# EAGLE library part IMS-C011M2 (library Transputers)
C011 peripheral mode 2 INMOS link adaptor in operation mode 2. Source: The Transputer Databook 1992 INMOS/SGS-Thomson Arto Kyyhkynen, artoky@dlc.fi
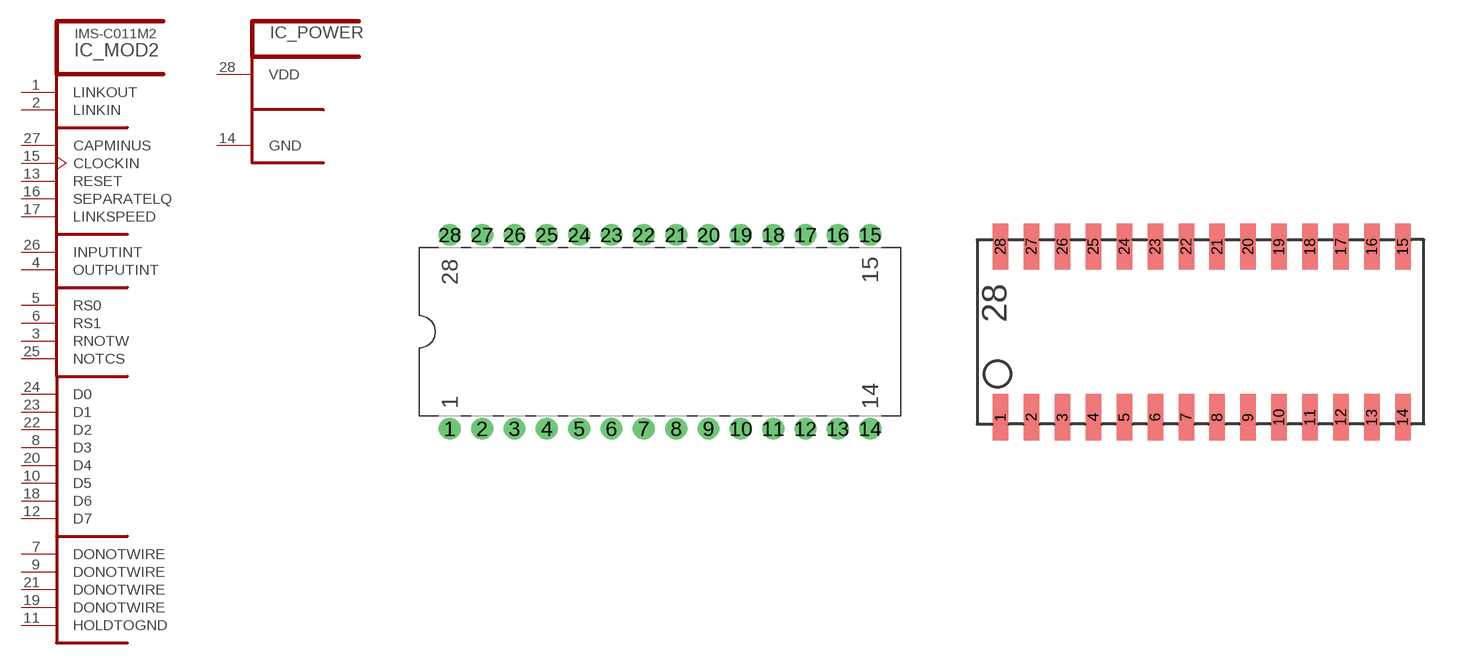
[diagram p5: symbol with the pads of DIL28-6; footprints DIL28-6, SOJ28-3]

Designator prefix IC; gates _MOD2=CO112M _POWER=C011SUP

## IMS-C011M2S20P  [DIL28-6]
1  _MOD2:LINKOUT  out
2  _MOD2:LINKIN  in
3  _MOD2:RNOTW  in
4  _MOD2:OUTPUTINT  out
5  _MOD2:RS0  in
6  _MOD2:RS1  in
7  _MOD2:DONOTWIRE  nc
8  _MOD2:D3
9  _MOD2:DONOTWIRE  nc
10  _MOD2:D5
11  _MOD2:HOLDTOGND  pas
12  _MOD2:D7
13  _MOD2:RESET  in
14  _POWER:GND  pwr
15  _MOD2:CLOCKIN  in
16  _MOD2:SEPARATELQ  in
17  _MOD2:LINKSPEED  in
18  _MOD2:D6
19  _MOD2:DONOTWIRE  nc
20  _MOD2:D4
21  _MOD2:DONOTWIRE  nc
22  _MOD2:D2
23  _MOD2:D1
24  _MOD2:D0
25  _MOD2:NOTCS  in
26  _MOD2:INPUTINT  out
27  _MOD2:CAPMINUS  pas
28  _POWER:VDD  pwr

## IMS-C011M2S20E  [SOJ28-3]
Pads as for DIL28-6

## Footprint DIL28-6 (pad centres in mm)
Plastic Dual In Line INMOS
drill 1.143 pad 1.676 round: 1 -16.51,-7.62; 2 -13.97,-7.62; 3 -11.43,-7.62; 4 -8.89,-7.62; 5 -6.35,-7.62; 6 -3.81,-7.62; 7 -1.27,-7.62; 8 1.27,-7.62; 9 3.81,-7.62; 10 6.35,-7.62; 11 8.89,-7.62; 12 11.43,-7.62; 13 13.97,-7.62; 14 16.51,-7.62; 15 16.51,7.62; 16 13.97,7.62; 17 11.43,7.62; 18 8.89,7.62; 19 6.35,7.62; 20 3.81,7.62; 21 1.27,7.62; 22 -1.27,7.62; 23 -3.81,7.62; 24 -6.35,7.62; 25 -8.89,7.62; 26 -11.43,7.62; 27 -13.97,7.62; 28 -16.51,7.62

## Footprint SOJ28-3 (pad centres in mm)
Plastic Surface Mount J-bend INMOS
smd 0.635 x 1.905: 1 -7.62,-3.505; 2 -6.35,-3.505; 3 -5.08,-3.505; 4 -3.81,-3.505; 5 -2.54,-3.505; 6 -1.27,-3.505; 7 0,-3.505; 8 1.27,-3.505; 9 2.54,-3.505; 10 3.81,-3.505; 11 5.08,-3.505; 12 6.35,-3.505; 13 7.62,-3.505; 14 8.89,-3.505; 15 8.89,3.505; 16 7.62,3.505; 17 6.35,3.505; 18 5.08,3.505; 19 3.81,3.505; 20 2.54,3.505; 21 1.27,3.505; 22 0,3.505; 23 -1.27,3.505; 24 -2.54,3.505; 25 -3.81,3.505; 26 -5.08,3.505; 27 -6.35,3.505; 28 -7.62,3.505